# EAGLE library part IS31AP4991 (library Audio)
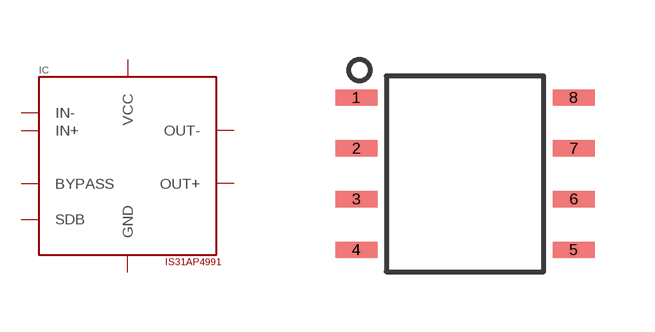
[diagram p0: symbol with the pads of SOP-8; footprint SOP-8]

Designator prefix IC

## IS31AP4991 (MN: ISSI, Integrated Silicon Solution Inc; MN_CODE: IS31AP4991-GRLS2-TR; ORDER: DIGIKEY; ORDER_CODE: 706-1164-2-ND)  [SOP-8]
1  IN+
2  OUT-
3  IN-
4  GND
5  BYPASS
6  OUT+
7  SDB
8  VCC

## Footprint SOP-8 (pad centres in mm)
smd 1.05 x 0.406: 1 -2.72,1.905; 2 -2.72,0.635; 3 -2.72,-0.635; 4 -2.72,-1.905; 5 2.72,-1.905; 6 2.72,-0.635; 7 2.72,0.635; 8 2.72,1.905